# Altium schematic symbol library POT.SchLib: 1 symbol
Pins are listed as number, name and electrical type; pins without a type are passive.

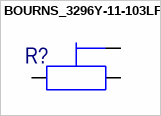
[diagram p0: symbol BOURNS_3296Y-11-103LF]

## BOURNS_3296Y-11-103LF
designator R?  (value not drawn)
TRIMMER 10K OHM 0.5W PC PIN TOP; Manufacturer Part Number: 3296Y-11-103LF; Manufacturer: Bourns Inc.; TH: 1
footprint BOURNS_3296SERIES
pins: 1, 2, 3